# Altium footprint library 691 214 310 0xx.PcbLib: 2 footprints
Each footprint in its own frame and in the unit in brackets; x right, y up, seen from the top. Pads: shape width x height; smd on the part's side, far side on the other; paste and mask are expansions set on the pad; w line width, h text height; cw(c..) or ccw(c..) is an arc to the next point about the centre after c.
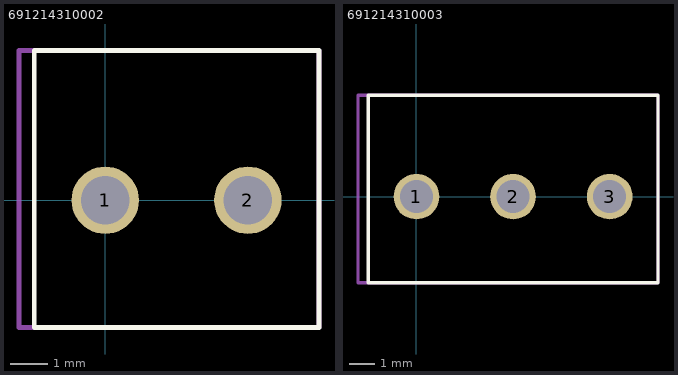
[diagram p0: the footprints below, top view; thin cyan lines are the x and y axes]

## 691214310002 [mm] "3,81mm - Horizontal wire entry - Rising cage clamp - 02p"
height 8.5
pads (2):
  round 1.8 hole 1.3: 1(0,0) 2(3.81,0)
Top Overlay:
  lines w0.127: -1.9,-3.4 -1.9,4 5.71,4 5.71,-3.4 -1.9,-3.4
Mechanical 13:
  lines w0.127: -2.305,-3.4 5.71,-3.4 5.71,4 -2.305,4 -2.305,-3.4
3D body: height 8.51, standoff -3.79, extent -2.305,-3.4 5.715,4

## 691214310003 [mm] "3,81mm - Horizontal wire entry - Rising cage clamp - 03p"
height 8.5
pads (3):
  round 1.8 hole 1.3: 1(0,0) 2(3.81,0) 3(7.62,0)
Top Overlay:
  lines w0.127: -1.905,-3.4 9.52,-3.4 9.52,4 -1.905,4 -1.905,-3.4
Mechanical 13:
  lines w0.127: -2.305,-3.4 9.525,-3.4 9.525,4 -2.305,4 -2.305,-3.4
3D body: height 8.51, standoff -3.79, extent -2.305,-3.4 9.525,4